# Altium schematic symbol library KasengLIb.SchLib: 43 symbols
Pins are listed as number, name and electrical type; pins without a type are passive.

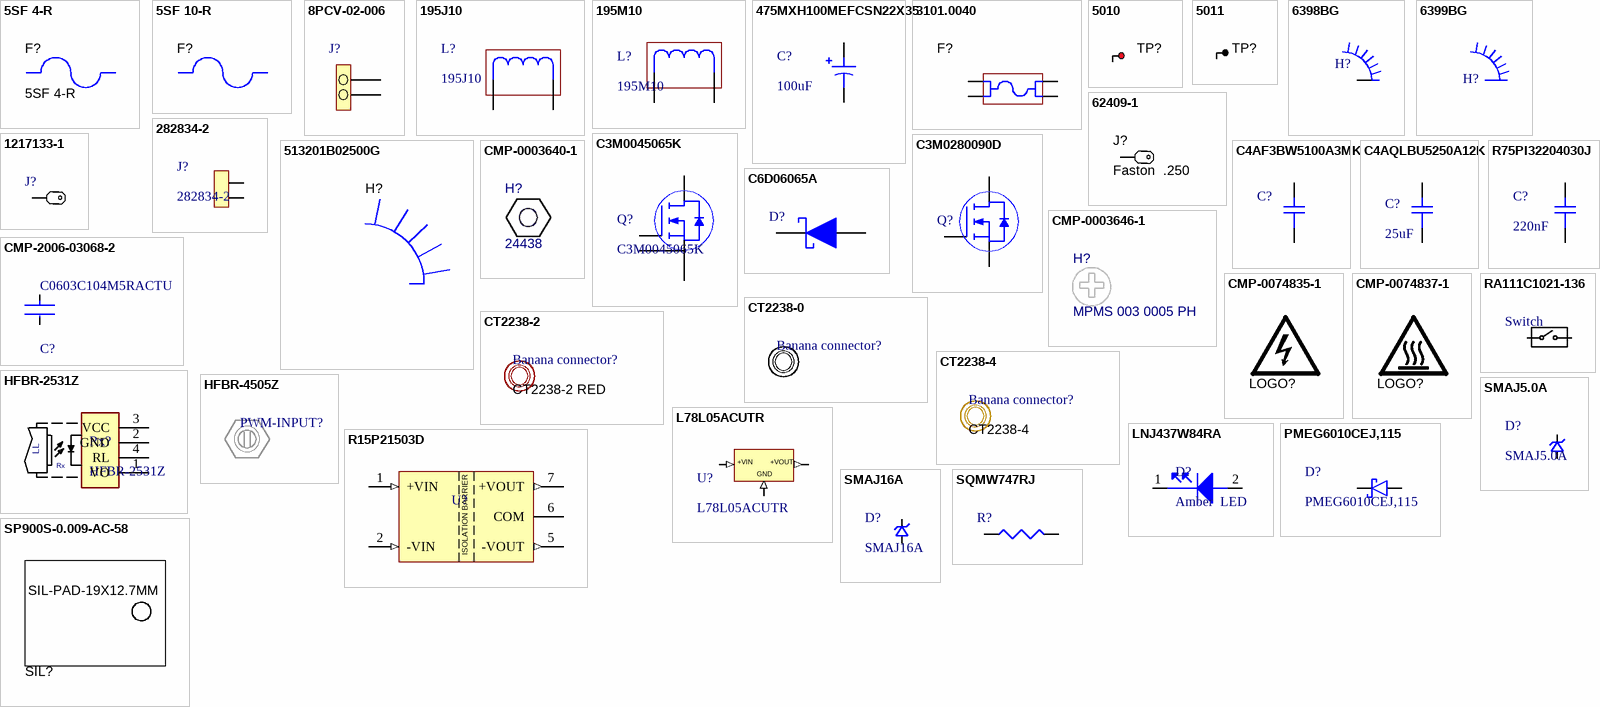
[diagram p0: symbols 5SF 4-R to SQMW747RJ]

## 5SF 4-R
designator F?  (mechanical)
Fuse, 4 A, 250 VAC, N/A; Manufacturer: Bel Fuse; SymbolCreator: a0412235; VAC_V: 250; Interrupt_AC: 40; Irating_A: 4; Rtyp_Ohm: 0.017; MeltingTyp: 26; SymbolVersion: 2013-06-05; PartNumber: 5SF 4-R; MountType: N/A; CompType: Fuse; RoHS: Y; Published: 2009-03-05; Publisher: Texas Instruments; LatestRevisionDate: 2016-05-23; ComponentLink1Description: Datasheet URL; ComponentLink1URL: http://belfuse.com/pdfs/5SF.pdf; Supplier 1: Digi-Key; Supplier Part Number 1: 507-1231-ND; Supplier 2: Mouser; Supplier Part Number 2: 530-5SF4-R

## 5SF 10-R
designator F?  (value not drawn)  (mechanical)
Fuse, 10 A, 250 VAC, N/A; Manufacturer: Bel Fuse; SymbolCreator: a0412235; VAC_V: 250; Interrupt_AC: 100; Irating_A: 10; Rtyp_Ohm: 0.006; MeltingTyp: 163; SymbolVersion: 2013-06-05; PartNumber: 5SF 10-R; MountType: N/A; CompType: Fuse; RoHS: Y; Published: 2009-03-05; Publisher: Texas Instruments; LatestRevisionDate: 2016-05-23; ComponentLink1Description: Datasheet URL; ComponentLink1URL: http://belfuse.com/pdfs/5SF.pdf; Supplier 1: Digi-Key; Supplier Part Number 1: 507-1235-ND; Supplier 2: Mouser; Supplier Part Number 2: 530-5SF10-R

## 8PCV-02-006
designator J?, comment 2P Terminal,  12-20  AWG  (value not drawn)
Barrier Terminal Blocks VERTICAL RAISED 2P; Manufacturer: TE Connectivity; Manufacturer Part Number: 8PCV-02-006; Max Voltage Rating (AC): 600V; Current Rating: 30A; Number of Contacts: 2; Mounting Ears: No (Without); Number of Levels: 1; Wire Gauge (Max): 18AWG; Wire Gauge (Min): 10AWG; Pitch: 11.1mm; Thread Size: M4; Supplier 1: Digi-Key; Supplier Part Number 1: A98460-ND; RoHS: Yes; Category: Terminal Blocks; Stock 1: 4811; Pricing 1: 1=1,84000, 10=1,29200, 25=1,20480, 50=1,09360, 100=1,08880, 250=0,91940, 500=0,87102, 1000=0,77424, 5000=0,62907 (USD); Mount: Through Hole; Contact Material: Copper Alloy; Contact Plating: Tin; Color: Black; Housing Material: Thermoplastic; Terminal Material: Copper Alloy; Insulation Material: Thermoplastic; Material: Thermoplastic; Min Operating Temperature: -40°C; Max Operating Temperature: 248°C; Number of Rows: 1; Voltage Rating: 600V; Package Quantity: 270; Termination: Screw; Number of Circuits: 2; Orientation: Straight; Number of Wire Entries: 2; Number of Positions: 2; Max Current Rating: 30A; Mounting Insert: No (Without); Voltage: 600V; Series: #8, Buchanan; Length: 24.07mm; Width: 0.8inch; Height: 0.77inch; Depth: 0.77inch; Wire/Cable Gauge: 10AWG; Flammability Rating: UL94 V-0; ELV: Compliant; RoHS Compliant: Yes; ComponentLink1URL: https://datasheet.ciiva.com/30214/8pcv02006-30214903.pdf?src-supplier=Onlinecomponents.com; ComponentLink1Description: https://datasheet.ciiva.com/30214/8pcv02006-30214903.pdf?src-supplier=Onlinecomponents.com; ComponentLink2URL: https://datasheet.ciiva.com/11746/0900766b80fa362c-11746107.pdf?src-supplier=RSComponents; ComponentLink2Description: https://datasheet.ciiva.com/11746/0900766b80fa362c-11746107.pdf?src-supplier=RSComponents; ComponentLink3URL: https://datasheet.ciiva.com/5181/eng-cd-6-1437657-3-k4-5181165.pdf?src-supplier=Mouser; ComponentLink3Description: https://datasheet.ciiva.com/5181/eng-cd-6-1437657-3-k4-5181165.pdf?src-supplier=Mouser
footprint TE_8PCV-02-006
pins: 1, 2

## 195J10
designator L?  (mechanical)
Fixed Inductors CHOKE; Manufacturer: Hammond Manufacturing; Shielding: Unshielded; Tolerance: 15%; Current Rating: 10A; Inductance: 10mH; DC Resistance (DCR): 70mR; Supplier 1: Digi-Key; Supplier Part Number 1: HM2135-ND; Manufacturer Part Number: 195J10; RoHS: Yes; Category: Fixed Inductors; Stock 1: 6; Pricing 1: 1=68,56000, 10=65,13000 (USD); Mount: Chassis Mount; Case/Package: Nonstandard; Weight: 6.5lb; Package Quantity: 1; Packaging: Bulk; Max DC Current: 10A; Termination: Screw; Series: 195; Length: 3.75inch; Width: 4.35inch; Height: 3.13inch; Height - Seated (Max): 3.13inch; Lead Free: Lead Free; RoHS Compliant: Yes; ComponentLink1URL: https://www.alliedelec.com/m/d/8463d4499fe931fd0b51c89e75ad4eff.pdf?src-supplier=Allied+Electronics; ComponentLink1Description: https://www.alliedelec.com/m/d/8463d4499fe931fd0b51c89e75ad4eff.pdf?src-supplier=Allied+Electronics; ComponentLink2URL: http://www.mouser.com/ds/2/177/5c0034-44711.pdf?src-supplier=Mouser; ComponentLink2Description: http://www.mouser.com/ds/2/177/5c0034-44711.pdf?src-supplier=Mouser; ComponentLink3URL: https://www.hammfg.com/electronics/transformers/choke/195-196.pdf?src-supplier=Digi-Key; ComponentLink3Description: https://www.hammfg.com/electronics/transformers/choke/195-196.pdf?src-supplier=Digi-Key

## 195M10
designator L?
Fixed Inductors CHOKE; Manufacturer: Hammond Manufacturing; Current Rating: 10A; Tolerance: 15%; Shielding: Unshielded; Inductance: 20mH; DC Resistance (DCR): 13mR; Supplier 1: Digi-Key; Supplier Part Number 1: HM2136-ND; Manufacturer Part Number: 195M10; RoHS: Yes; Category: Fixed Inductors; Stock 1: 20; Pricing 1: 1=82,90000 (USD); Mount: Chassis Mount; Case/Package: 120; Weight: 10.2lb; Package Quantity: 1; Packaging: Bulk; Max DC Current: 10A; Termination: Screw; Series: 195; Length: 4.5inch; Width: 4.75inch; Height: 3.75inch; RoHS Compliant: Yes; ComponentLink1URL: http://www.mouser.com/ds/2/177/195-196-980958.pdf?src-supplier=Mouser; ComponentLink1Description: http://www.mouser.com/ds/2/177/195-196-980958.pdf?src-supplier=Mouser; ComponentLink2URL: https://www.alliedelec.com/m/d/8463d4499fe931fd0b51c89e75ad4eff.pdf?src-supplier=Allied+Electronics; ComponentLink2Description: https://www.alliedelec.com/m/d/8463d4499fe931fd0b51c89e75ad4eff.pdf?src-supplier=Allied+Electronics; ComponentLink3URL: https://www.hammfg.com/electronics/transformers/choke/195-196.pdf?src-supplier=Digi-Key; ComponentLink3Description: https://www.hammfg.com/electronics/transformers/choke/195-196.pdf?src-supplier=Digi-Key

## 475MXH100MEFCSN22X35
designator C?, comment 100uF
Cap Aluminum Lytic 100uF 475V 20% (22 X 35mm) Snap-In 10mm 880mA 2000h 105C; Manufacturer: Rubycon; Manufacturer Part Number: 475MXH100MEFCSN22X35; Polarity: Polar; Life (Hours): 2000Hour; Supplier 1: Digi-Key; Supplier Part Number 1: 1189-3424-ND; RoHS: Yes; Category: Aluminum Electrolytic Capacitors; Stock 1: 187; Pricing 1: 1=3,65000, 10=3,53900, 50=3,13740, 100=2,84560, 500=2,11598, 1000=1,97004, 2500=1,89708, 5000=1,86059 (USD); Mount: Through Hole; Case/Package: Radial; Min Operating Temperature: -25°C; Max Operating Temperature: 105°C; Packaging: Bulk; Capacitance: 100uF; Voltage Rating: 475V; Ripple Current: 880mA; Tolerance: 20%; Lead Pitch: 0.394inch; Height - Seated (Max): 1.457inch; RoHS Compliant: Yes; ComponentLink1URL: http://www.rubycon.co.jp/en/catalog/e_pdfs/aluminum/e_MXH.pdf?src-supplier=Digi-Key; ComponentLink1Description: http://www.rubycon.co.jp/en/catalog/e_pdfs/aluminum/e_MXH.pdf?src-supplier=Digi-Key
footprint CAP_MXC_22x35_RUB
pins: 1, 2

## 3101.0040
designator F?  (value not drawn)
Fuse Holder, 400 V, 16 A, TH; Manufacturer: Schurter; SymbolCreator: a0799628; SymbolVersion: 2014-05-01; CompType: Fuse Holder; PartNumber: 3101.0040; RoHS: Y; PackageReference: Fuse Holder for 5x20mm; MountType: TH; ComponentLink1Description: Datasheet Link; ComponentLink1URL: http://www.schurterinc.com/var/schurter/storage/ilcatalogue/files/document/datasheet/en/pdf/typ_FPG4.pdf; Publisher: Texas Instruments; LatestRevisionDate: 2016-05-10; Supplier 1: Digi-Key; Supplier Part Number 1: 486-1159-ND
footprint SCHURTER_3101_0040 (Fuse Holder, Body 12.5x12.5mm, TH)
pins: 1, 2, 3, 4

## 5010
designator TP?  (value not drawn)
Test Point, Multipurpose, Red, TH; Manufacturer: Keystone; CompType: Test Point Loop; ContactFinish: Silver; SymbolVersion: 2008-04-04; PartNumber: 5010; PackageReference: Red Multipurpose Testpoint; RoHS: Y; MountType: TH; ComponentLink1Description: Datasheet URL; ComponentLink1URL: http://www.keyelco.com/userAssets/file/M60-2p60.pdf; Color: Red; Publisher: Texas Instruments; LatestRevisionDate: 2016-02-11; Supplier 1: Digi-Key; Supplier Part Number 1: 36-5010-ND; Supplier 2: Mouser; Supplier Part Number 2: 534-5010
footprint Keystone5010
pins: 1

## 5011
designator TP?  (value not drawn)
Test Point, Multipurpose, Black, TH; Manufacturer: Keystone; CompType: Test Point Loop; ContactFinish: Silver; SymbolVersion: 2008-04-04; PartNumber: 5011; PackageReference: Black Multipurpose Testpoint; RoHS: Y; MountType: TH; ComponentLink1Description: Datasheet URL; ComponentLink1URL: http://www.keyelco.com/userAssets/file/M60-2p60.pdf; Color: Black; Publisher: Texas Instruments; LatestRevisionDate: 2016-02-11; Supplier 1: Digi-Key; Supplier Part Number 1: 36-5011-ND; Supplier 2: Mouser; Supplier Part Number 2: 534-5011
footprint Keystone5011
pins: 1

## 6398BG
designator H?  (value not drawn)
AAVID THERMALLOY   6398BG   Heat Sink, Square, PCB, With Radial Fins, TO-220, 4.4 C/W, 38.1 mm, 41.91 mm, 25.4 mm; Shape: Fins,Rectangular; Finish: Anodized; Thermal Resistance @ Forced Air Flow (100 LFM): 2°C/W; Natural Thermal Resistance: 4.4°C/W; Supplier 1: Digi-Key; Supplier Part Number 1: 6398BG-ND; Manufacturer: Aavid Thermalloy; Manufacturer Part Number: 6398BG; RoHS: Yes; Category: Heat Sinks; Stock 1: 6116; Pricing 1: 1=2,05000, 10=1,99200, 25=1,93800, 50=1,83020, 100=1,72260, 250=1,61496, 500=1,56112, 1000=1,39962, 5000=1,37270 (USD); Mount: Bolt,PC Pin,Screw; Case/Package: Radial; Number of Pins: 220; Color: Black; Package Cooled: TO-220; Material: Aluminium,Anodized; Type: Passive; Package Quantity: 500; Length: 41.91mm; Width: 1.65inch; Height: 38.1mm; Height Off Base: 1inch; Depth: 25.4mm; Radiation Hardening: No; REACH SVHC: No SVHC; Lead Free: Lead Free; RoHS Compliant: Yes; ComponentLink1URL: https://datasheet.ciiva.com/1421/5562-1421857.pdf?src-supplier=Newark; ComponentLink1Description: https://datasheet.ciiva.com/1421/5562-1421857.pdf?src-supplier=Newark; ComponentLink2URL: https://datasheet.ciiva.com/15182/getdatasheetpartid-123227-15182577.pdf?src-supplier=Verical; ComponentLink2Description: https://datasheet.ciiva.com/15182/getdatasheetpartid-123227-15182577.pdf?src-supplier=Verical; ComponentLink3URL: https://datasheet.ciiva.com/16362/6398bg-16362515.pdf?src-supplier=Future+Electronics; ComponentLink3Description: https://datasheet.ciiva.com/16362/6398bg-16362515.pdf?src-supplier=Future+Electronics; ComponentLink4URL: https://datasheet.ciiva.com/1005/aavid-board-level-heatsinks-catalog-1005059.pdf?src-supplier=Digi-Key; ComponentLink4Description: https://datasheet.ciiva.com/1005/aavid-board-level-heatsinks-catalog-1005059.pdf?src-supplier=Digi-Key; ComponentLink5URL: https://datasheet.ciiva.com/1346/5562-1346792.pdf?src-supplier=Element14; ComponentLink5Description: https://datasheet.ciiva.com/1346/5562-1346792.pdf?src-supplier=Element14
footprint HSINK_6398BG
pins: 1

## 6399BG
designator H?, comment Disipador de 3.3.C/W  (value not drawn)
AAVID THERMALLOY         6399BG            Heat Sink, TO-220/218, TO-220, 3.3 C/W, 50 mm, 41.91 mm, 25.4 mm; Finish: Anodized; Natural Thermal Resistance: 3.3°C/W; Supplier 1: Digi-Key; Supplier Part Number 1: HS528-ND; Manufacturer: Aavid Thermalloy; Manufacturer Part Number: 6399BG; RoHS: Yes; Category: Heat Sinks; Stock 1: 1442; Pricing 1: 1=6,20000, 10=6,02800, 25=5,69320, 50=5,35840, 100=5,02350, 250=4,68860, 500=4,35370, 1000=4,26998, 5000=4,18625 (USD); Case/Package: TO-220; Color: Black; Material: Anodized; Type: Passive; Package Quantity: 250; Series: *; Length: 41.91mm; Width: 41.91mm; Height: 50.8mm; Depth: 25.4mm; Radiation Hardening: No; REACH SVHC: No SVHC; Lead Free: Lead Free; RoHS Compliant: Yes; ComponentLink1URL: https://datasheet.ciiva.com/26826/getdatasheetpartid-556672-26826808.pdf?src-supplier=Verical; ComponentLink1Description: https://datasheet.ciiva.com/26826/getdatasheetpartid-556672-26826808.pdf?src-supplier=Verical; ComponentLink2URL: https://datasheet.ciiva.com/16401/aavid20thermalloy206399bg-16401195.pdf?src-supplier=Future+Electronics; ComponentLink2Description: https://datasheet.ciiva.com/16401/aavid20thermalloy206399bg-16401195.pdf?src-supplier=Future+Electronics
footprint HSINK_6399BG

## 62409-1
designator J?, comment Faston  .250
Quick Disconnect Terminal M 15.8mm 7.5mm Tin Over Copper Automotive Bag; Manufacturer: AMP - TE CONNECTIVITY; Manufacturer Part Number: 62409-1; RoHS: No; Stock 1: 8729; Pricing 1: 1=0,19000, 10=0,17800, 25=0,15200, 50=0,13320, 100=0,12360, 250=0,10936, 750=0,09035, 1500=0,08083, 8000=0,06895 (USD); ComponentLink1URL: http://www.farnell.com/datasheets/1650963.pdf?src-supplier=Farnell; ComponentLink1Description: http://www.farnell.com/datasheets/1650963.pdf?src-supplier=Farnell; ComponentLink2URL: http://www.farnell.com/datasheets/1650963.pdf?src-supplier=Element14; ComponentLink2Description: http://www.farnell.com/datasheets/1650963.pdf?src-supplier=Element14; ComponentLink3URL: http://www.farnell.com/datasheets/1650963.pdf?src-supplier=Newark; ComponentLink3Description: http://www.farnell.com/datasheets/1650963.pdf?src-supplier=Newark; ComponentLink4URL: https://www.te.com/commerce/DocumentDelivery/DDEController?Action=srchrtrv&DocNm=62409&DocType=Customer+Drawing&DocLang=English&src-supplier=Digi-Key; ComponentLink4Description: https://www.te.com/commerce/DocumentDelivery/DDEController?Action=srchrtrv&DocNm=62409&DocType=Customer+Drawing&DocLang=English&src-supplier=Digi-Key; Supplier 1: Newark; Supplier Part Number 1: 26AC8417
footprint TE_62409-1
pins: 1 P1

## 282834-2
designator J?
TE CONNECTIVITY / BUCHANAN - 282834-2 - TERMINAL BLOCK, WIRE TO BRD, 2POS, 16AWG; Plating: Brass,Steel; Number of Contacts: 2; Voltage Rating: 150V; Number of Levels: 1; Current: 10A; Connector Type: Receptacle; Interlock: No (Without); Screwless Terminal Block: Yes (With); Gender: Male; Pitch: 2.54mm; Wire Gauge (Max): 30AWG; Thread Size: M1.6; Tail Length: 3.4mm; Approvals: UL; Supplier 1: Digi-Key; Supplier Part Number 1: A98333-ND; Manufacturer: TE Connectivity; Manufacturer Part Number: 282834-2; RoHS: Yes; Category: Terminal Blocks; Stock 1: 21575; Pricing 1: 1=1,27000, 10=0,89500, 25=0,83440, 50=0,75740, 100=0,75410, 250=0,63676, 500=0,60324, 1000=0,53622, 5000=0,50270 (USD); Mount: Through Hole; Housing Color: Green; Contact Plating: Tin; Contact Material: Brass; Color: Green; Housing Material: Polyamide; Material: Nylon; Min Operating Temperature: -40°C; Max Operating Temperature: 105°C; Number of Rows: 1; Termination: Solder; Orientation: Straight; Package Quantity: 300; Packaging: Bulk; Number of Positions: 2; Number of Positions Per Level: 2; Voltage: 150V; Max Supply Voltage (AC): 150V; Number of Circuits: 2; Screw Flange: No (Without); Side Stackable: Yes (With); Series: Buchanan; Max Voltage Rating (AC): 150V; Current Rating: 10A; Closed End: No (Without); Max Current Rating: 10A; Number of Poles: 2; Length: 5.54mm; Width: 6.5mm; Wire Gauge (Min): 30AWG; Depth: 6.5mm; Wire/Cable Gauge: 30AWG; Radiation Hardening: No; ELV: Compliant; Flammability Rating: UL94 V-0; RoHS Compliant: Yes; Lead Free: Lead Free; REACH SVHC: Unknown; ComponentLink1URL: https://datasheet.ciiva.com/11758/0900766b80e7dc96-11758675.pdf?src-supplier=RSComponents; ComponentLink1Description: https://datasheet.ciiva.com/11758/0900766b80e7dc96-11758675.pdf?src-supplier=RSComponents; ComponentLink2URL: https://datasheet.ciiva.com/16386/282834-2-16386363.pdf?src-supplier=Future+Electronics; ComponentLink2Description: https://datasheet.ciiva.com/16386/282834-2-16386363.pdf?src-supplier=Future+Electronics; ComponentLink3URL: https://datasheet.ciiva.com/14609/70086732-14609670.pdf?src-supplier=Allied+Electronics; ComponentLink3Description: https://datasheet.ciiva.com/14609/70086732-14609670.pdf?src-supplier=Allied+Electronics; ComponentLink4URL: https://datasheet.ciiva.com/15169/getdatasheetpartid-155864-15169558.pdf?src-supplier=Verical; ComponentLink4Description: https://datasheet.ciiva.com/15169/getdatasheetpartid-155864-15169558.pdf?src-supplier=Verical; ComponentLink5URL: https://datasheet.ciiva.com/16676/eng-cs-1308389-eurostyle-terminal-blocks-0607-16676126.pdf?src-supplier=Avnet+Europe; ComponentLink5Description: https://datasheet.ciiva.com/16676/eng-cs-1308389-eurostyle-terminal-blocks-0607-16676126.pdf?src-supplier=Avnet+Europe; ComponentLink6URL: https://datasheet.ciiva.com/30166/eng-cs-1308389-eurostyle-terminal-blocks-0607-30166974.pdf?src-supplier=Onlinecomponents.com; ComponentLink6Description: https://datasheet.ciiva.com/30166/eng-cs-1308389-eurostyle-terminal-blocks-0607-30166974.pdf?src-supplier=Onlinecomponents.com; ComponentLink7URL: https://datasheet.ciiva.com/3141/eng-cs-1308389-eurostyle-terminal-blocks-0607-3141115.pdf?src-supplier=Avnet; ComponentLink7Description: https://datasheet.ciiva.com/3141/eng-cs-1308389-eurostyle-terminal-blocks-0607-3141115.pdf?src-supplier=Avnet; ComponentLink8URL: https://datasheet.ciiva.com/823/eng-cd-282834-c1-823453.pdf?src-supplier=Digi-Key; ComponentLink8Description: https://datasheet.ciiva.com/823/eng-cd-282834-c1-823453.pdf?src-supplier=Digi-Key
footprint TE 282834-2
pins: 1, 2

## 513201B02500G
designator H?  (value not drawn)
HEATSINK TO-218/TO-247 W/PINS 2"; Manufacturer: Aavid; SymbolCreator: a0412235; SymbolVersion: 2013-07-05; CompType: Heat Sink; PartNumber: 513201B02500G; RoHS: Y; PackageReference: 12.70x50.80x34.92 mm; MountType: N/A; ComponentLink1Description: Datasheet Link; ComponentLink1URL: http://www.aavid.com/sites/default/files/literature/Aavid-Board-Level-Heatsinks-Catalog.pdf#page=58; Publisher: Texas Instruments; LatestRevisionDate: 2014-06-05; Supplier 1: Digi-Key; Supplier Part Number 1: HS347-ND; Supplier 2: Mouser; Supplier Part Number 2: 532-513201B25G
footprint HSINK_513201B02500

## 1217133-1
designator J?, comment Faston .133  (value not drawn)
CONN QC TAB 0.187 SOLDER; Manufacturer: TE Connectivity; Manufacturer Part Number: 1217133-1; Plating: Tin; Body Material: Brass; Insulation: Non-Insulated; Insulated Wire Support: Yes; Gender: Male; Outside Diameter: 1.32mm; Mating Tab Width: 4.75mm; Hole Diameter: 0.052inch; PCB Thickness: 0.062inch; Tab Width: 0.187inch; Tab Thickness: 0.032inch; Board Thickness: 1.57mm; Supplier 1: Digi-Key; Supplier Part Number 1: A100449CT-ND; RoHS: Yes; Category: Terminals; Stock 1: 9496; Pricing 1: 1=0,14000, 10=0,13300, 25=0,09920, 50=0,08500, 100=0,08210, 250=0,07076, 500=0,06794, 1000=0,05945, 2500=0,05379 (USD); Material: Brass; Body Plating: Tin; Contact Plating: Tin; Contact Material: Brass; Termination: Tab; Packaging: Tape and Reel; Package Quantity: 10000; Length: 12.45mm; Depth: 7.92mm; Radiation Hardening: No; Lead Free: Lead Free; ELV: Compliant; ComponentLink1URL: https://datasheet.ciiva.com/3144/eng-cs-82004-faston-pcb-tabs-receptacles-1012-3144672.pdf?src-supplier=Avnet; ComponentLink1Description: https://datasheet.ciiva.com/3144/eng-cs-82004-faston-pcb-tabs-receptacles-1012-3144672.pdf?src-supplier=Avnet; ComponentLink2URL: https://datasheet.ciiva.com/16301/eng-cs-82004-faston-pcb-tabs-receptacles-0311-16301555.pdf?src-supplier=Future+Electronics; ComponentLink2Description: https://datasheet.ciiva.com/16301/eng-cs-82004-faston-pcb-tabs-receptacles-0311-16301555.pdf?src-supplier=Future+Electronics; ComponentLink3URL: https://datasheet.ciiva.com/839/eng-cd-1217133-g-basefilename-839190.pdf?src-supplier=Digi-Key; ComponentLink3Description: https://datasheet.ciiva.com/839/eng-cd-1217133-g-basefilename-839190.pdf?src-supplier=Digi-Key; ComponentLink4URL: https://datasheet.ciiva.com/30183/eng-cat-82004-0706-042-052-30183301.pdf?src-supplier=Onlinecomponents.com; ComponentLink4Description: https://datasheet.ciiva.com/30183/eng-cat-82004-0706-042-052-30183301.pdf?src-supplier=Onlinecomponents.com; ComponentLink5URL: https://datasheet.ciiva.com/16647/eng-cs-82004-faston-pcb-tabs-receptacles-1012-16647017.pdf?src-supplier=Avnet+Europe; ComponentLink5Description: https://datasheet.ciiva.com/16647/eng-cs-82004-faston-pcb-tabs-receptacles-1012-16647017.pdf?src-supplier=Avnet+Europe; ComponentLink6URL: https://datasheet.ciiva.com/839/eng-cd-1217133-g-basefilename-839191.pdf?src-supplier=Digi-Key; ComponentLink6Description: https://datasheet.ciiva.com/839/eng-cd-1217133-g-basefilename-839191.pdf?src-supplier=Digi-Key
pins: 1 P1

## C3M0045065K
designator Q?
GEN 3 650V 45 M SIC MOSFET; Manufacturer: Cree Wolfspeed; Manufacturer Part Number: C3M0045065K; RoHS: No; Stock 1: 444; Pricing 1: 1=10,55000 (USD)
footprint TO-247-4L_C3M0075120K_WFS
pins: 1 D, 2 Power Source, 3 S, 4 G

## C3M0280090D
designator Q?, comment Sic MOSFET  (value not drawn)
MOSFET N-CH 900V 11.5A; Manufacturer: Cree; Manufacturer Part Number: C3M0280090D; Threshold Voltage: 2.1V; Max Power Dissipation: 54W; Supplier 1: Digi-Key; Supplier Part Number 1: C3M0280090D-ND; RoHS: Yes; Category: Transistors; Stock 1: 150; Pricing 1: 1=3,25000 (USD); Case/Package: TO-247; Number of Pins: 3; Max Operating Temperature: 150°C; Continuous Drain Current (ID): 11.5A; Drain to Source Voltage (Vdss): 900V; REACH SVHC: No SVHC; ComponentLink1URL: https://www.wolfspeed.com/downloads/dl/file/id/825/product/195/c3m0280090d.pdf?src-supplier=Digi-Key; ComponentLink1Description: https://www.wolfspeed.com/downloads/dl/file/id/825/product/195/c3m0280090d.pdf?src-supplier=Digi-Key
footprint C3M0280090D (To-247-3 C3M0280090D)
pins: 1 G, 2 D, 3 S

## C4AF3BW5100A3MK
designator C?  (value not drawn)
Cap Film 10uF 800V PP 10% (57.5 X 30 X 45mm) Radial 52.5mm 105°C Bulk; Manufacturer: KEMET; Supplier 1: Digi-Key; Supplier Part Number 1: 399-17837-ND; Manufacturer Part Number: C4AF3BW5100A3MK; RoHS: Yes; Category: Film Capacitors; Stock 1: 162; Pricing 1: 1=9,21000, 10=8,18900, 50=7,16540, 100=6,55120, 500=5,73230 (USD); RoHS Compliant: Yes
footprint C4AF Capacitors
pins: 1, 2

## C4AQLBU5250A12K
designator C?, comment 25uF
KEMET   C4AQLBU5250A12K.   CAP FILM 25UF 10% 500VDC RADIAL; Supplier 1: Digi-Key; Supplier Part Number 1: 399-16989-ND; Manufacturer: KEMET; Manufacturer Part Number: C4AQLBU5250A12K; RoHS: Yes; Category: Film Capacitors; Stock 1: 99; Pricing 1: 1=7,00000, 10=6,21800, 50=5,44060, 100=4,97440, 500=4,35256 (USD); RoHS Compliant: Yes; Value: 25uF
footprint C4AQLBU5250A12K (Film Capacitor KEMET)
pins: 1, 2

## C6D06065A
designator D?, comment Schottky Diode  (value not drawn)
Sic Schottky Diode, VRRM = 650V. IF= 6A; Manufacturer: Cree Wolfspeed; Manufacturer Part Number: C6D06065A; Cagetory: Schottly Diode; Supplier 1: Digi-Key; Supplier Part Number 1: 1697-C6D06065A-ND; RoHS: No; Stock 1: 376; Pricing 1: 1=1,80000 (USD)
footprint C6D06065A (To-220-2,C6D06065A,)
pins: 1, 2

## CMP-2006-03068-2
designator C?, comment C0603C104M5RACTU
CAP CER 0.1UF 50V 20% X7R 0603; Manufacturer: KEMET; Material: Ceramic; Tolerance: 0.2; Value: 0.10 μF; Temperature Coefficient: 30ppm/°C; Automotive Grade: Grade 1; Temperature Range High: +125°C; Voltage Rating: 50 V; Device Class L3: Ceramic Capacitors; Manufacturer Part Number: C0603C104M5RACTU; Height: 0.87mm; Category: Cap; RoHS: TRUE; Digikey Description: CAP CER 0.1UF 50V 20% X7R 0603; ComponentLink2URL: https://api.kemet.com/component-edge/download/datasheet/C0603C100J5GACAUTO.pdf; Lead Free: Yes; Temperature Range Low: -55°C; Device Class L1: Passive Components; ComponentLink2Description: Datasheet; Temperature Characteristic: X7R; Automotive: Yes; Temperature: -55°C to +125°C; Octopart: https://octopart.com/c0603c104m5ractu-kemet-11855687; Device Class L2: Capacitors; Package: C0603C-CF; Mouser Description: Multilayer Ceramic Capacitors MLCC - SMD/SMT 50volts 0.1uF X7R 20%; Capacitance: 0.10 μF
footprint FP-C0603C-CF-IPC_C
pins: 1, 2

## CMP-0003640-1
designator H?, comment 24438
Standoff, Hex,25mm Length, M3, Aluminum; Manufacturer: Keystone; CompType: Hardware; ComponentLink1URL: http://www.keyelco.com/userAssets/file/M60-2p72.pdf; Key: 24438; Publisher: Texas Instruments; Supplier Part Number 2: 534-24438; Supplier 1: Digi-Key; PackageReference: Standoff M3; LatestRevisionDate: 2017-03-09; RoHS: Y; Supplier Part Number 1: 36-24438-ND; MountType: TH; Supplier 2: Mouser; PartNumber: 24438; ComponentLink1Description: Datasheet Link
footprint Keystone24438 (Standoff, Aluminium, M3x0.5mm, L 25 mm)
footprint Keystone24438 (Standoff, Aluminium, M3x0.5mm, L 25 mm)

## CMP-0003646-1
designator H?, comment MPMS 003 0005 PH
MACHINE SCREW PAN PHILLIPS M3 5mm; Manufacturer: B&F Fastener Supply; CompType: Hardware; ComponentLink1URL: http://www.fasnetdirect.com/refguide/MetD7985a.pdf; Key: MPMS 003 0005 PH; Publisher: Texas Instruments; PackageReference: Screw M3 Phillips head; LatestRevisionDate: 2017-03-09; ClassName: Screw; RoHS: Y; MountType: N/A; PartNumber: MPMS 003 0005 PH; ComponentLink1Description: Datasheet Link; Supplier 1: Digi-Key; Supplier Part Number 1: H742-ND
footprint BuildingFastener_MPMS_003_0005_PH (MACHINE SCREW PAN PHILLIPS M3)

## CMP-0074835-1
designator LOGO?, comment DANGER HIGH VOLTAGE  (value not drawn)  (no BOM)
IEC 61010-1 High Voltage Warning; SymbolCreator: a0412235; Lib Reference: IEC_HighVoltage; SymbolVersion: 2011-08-22; Published: 2009-03-03; Publisher: Texas Instruments; LatestRevisionDate: 2017-07-06; PartNumber: DANGER HIGH VOLTAGE; Library Reference: IEC_HighVoltage
footprint IEC_HighVoltage_Large
footprint IEC_HighVoltage_Small
footprint IEC_HighVoltage_Medium

## CMP-0074837-1
designator LOGO?, comment CAUTION HOT SURFACE  (value not drawn)  (no BOM)
IEC 61010-1 Hot Surface Warning; SymbolCreator: a0412235; Lib Reference: IEC_HotSurface; SymbolVersion: 2011-08-22; Published: 2009-03-03; Publisher: Texas Instruments; LatestRevisionDate: 2017-07-06; PartNumber: CAUTION HOT SURFACE; Library Reference: IEC_HotSurface
footprint IEC_HotSurface_Large
footprint IEC_HotSurface_Small
footprint IEC_HotSurface_Medium

## CT2238-0
designator Banana connector?  (value not drawn)  (mechanical)
Cable Assembly 4MM Safety Jack, Panel W/.25 Fast on Terminal Black; Manufacturer: Cal Test Electronics; Supplier 1: Digi-Key; Supplier Part Number 1: BKCT2238-0-ND; Manufacturer Part Number: CT2238-0; RoHS: No; Stock 1: 1448; Pricing 1: 1=2,00000 (USD)

## CT2238-2
designator Banana connector?, comment CT2238-2 RED  (mechanical)
Cable Assembly 4MM Safety Jack, Panel W/.25 Fast on Terminal Red; Manufacturer: Cal Test Electronics; Manufacturer Part Number: CT2238-0; Supplier 1: Digi-Key; Supplier Part Number 1: BKCT2238-0-ND; RoHS: No; Stock 1: 1448; Pricing 1: 1=2,00000 (USD)

## CT2238-4
designator Banana connector?  (mechanical)
Cable Assembly 4MM Safety Jack, Panel W/.25 Fast on Terminal Yellow; Manufacturer: Cal Test Electronics; Manufacturer Part Number: CT2238-0; Supplier 1: Digi-Key; Supplier Part Number 1: BKCT2238-0-ND; RoHS: No; Stock 1: 1448; Pricing 1: 1=2,00000 (USD)

## HFBR-2531Z
designator Rx?
RX Optical Fiber 5MBd 6-Pin; Manufacturer: Broadcom Avago; Wavelength: 660nm; Operating Supply Current: 10mA; Max Supply Voltage: 7V; Min Supply Voltage: -500mV; Output Current: 25mA; Data Rate: 115Kbps; Operating Supply Voltage: 5V; Max Power Dissipation: 40mW; Rise Time: 80ns; Fall Time: 40ns; Supplier 1: Digi-Key; Supplier Part Number 1: 516-2067-ND; Manufacturer Part Number: HFBR-2531Z; RoHS: Yes; Category: Fiber Optics; Stock 1: 6696; Pricing 1: 1=12,98000, 10=9,79400, 100=8,22730, 500=7,55568, 1000=7,39200 (USD); Mount: Through Hole; Number of Pins: 6; Weight: 0.021164oz; Min Operating Temperature: -40°C; Max Operating Temperature: 85°C; Package Quantity: 200; Max Output Current: 25mA; Packaging: Rail/Tube; Series: HFBR-2; Length: 18.3mm; Width: 12.2mm; Height: 18.8mm; Radiation Hardening: No; REACH SVHC: No SVHC; Lead Free: Lead Free; RoHS Compliant: Yes
footprint HFBR-15X1V
pins: 1 VO, 2 GND (power), 3 VCC, 4 RL
text: LL; Rx

## HFBR-4505Z
designator PWM-INPUT?  (value not drawn)  (mechanical)
Conn POF Adapter Simplex F/F ST Panel Mount; Manufacturer: Broadcom Avago; Body Material: Plastic; Simplex/Duplex: Duplex; Gender: Male; Mode: Singlemode; Supplier 1: Digi-Key; Supplier Part Number 1: 516-1748-ND; Manufacturer Part Number: HFBR-4505Z; RoHS: Yes; Category: Fiber Optics; Stock 1: 6533; Pricing 1: 1=1,88000, 10=1,19200, 100=0,88240, 500=0,81090, 1000=0,66780, 2000=0,63441, 5000=0,63000 (USD); Mount: Panel,Bulkhead; Color: Grey; Housing Color: Grey; Material: Plastic; Housing Material: Plastic; Min Operating Temperature: -40°C; Max Operating Temperature: 85°C; Package Quantity: 500; Packaging: Bulk; Orientation: Straight; Series: -; Port Type: SIMPLEX; Length: 30mm; Depth: 11mm; REACH SVHC: No SVHC; Lead Free: Lead Free; RoHS Compliant: Yes

## L78L05ACUTR
designator U?
Voltage regulator; linear, fixed; 5V; 0.1A; SOT89; SMD; 0÷125°C; Manufacturer: STMicroelectronics; Number of Outputs: 1; Max Input Voltage: 30V; Max Output Current: 100mA; Polarity: Positive; Quiescent Current: 6mA; Accuracy: 4%; Dropout Voltage: 1.7V; Min Input Voltage: 7V; Power Supply Rejection Ratio (PSRR): 49dB; Supplier 1: Digi-Key; Supplier Part Number 1: 497-1183-1-ND; Manufacturer Part Number: L78L05ACUTR; RoHS: Yes; Category: Voltage Regulators - Linear; Stock 1: 40018; Pricing 1: 1=0,53000, 10=0,43300, 25=0,39600, 100=0,26710, 250=0,22108, 500=0,20266, 1000=0,17380 (USD); Mount: Surface Mount; Case/Package: SOT-89; Number of Pins: 3; Weight: 0.004603oz; Contact Plating: Tin,Matte; Min Operating Temperature: 0°C; Max Operating Temperature: 125°C; Output Voltage: 5V; Output Type: Fixed; Package Quantity: 1; Packaging: Tape and Reel; Output Current: 100mA; Nominal Output Voltage: 5V; Number of Regulators: 1; Min Output Voltage: 5V; Output Voltage Accuracy: 4%; Series: -; Length: 4.6mm; Width: 2.6mm; Height: 1.6mm; Radiation Hardening: No; REACH SVHC: No SVHC; Lead Free: Lead Free; RoHS Compliant: Yes; ComponentLink1URL: https://datasheet.ciiva.com/2041/cd00000446-2041792.pdf?src-supplier=Digi-Key; ComponentLink1Description: https://datasheet.ciiva.com/2041/cd00000446-2041792.pdf?src-supplier=Digi-Key; ComponentLink2URL: https://datasheet.ciiva.com/1511/1868798-1511940.pdf?src-supplier=Element14; ComponentLink2Description: https://datasheet.ciiva.com/1511/1868798-1511940.pdf?src-supplier=Element14; ComponentLink3URL: https://datasheet.ciiva.com/7992/1868798-7992600.pdf?src-supplier=Element14; ComponentLink3Description: https://datasheet.ciiva.com/7992/1868798-7992600.pdf?src-supplier=Element14; ComponentLink4URL: https://datasheet.ciiva.com/16393/cd00000446-16393708.pdf?src-supplier=Future+Electronics; ComponentLink4Description: https://datasheet.ciiva.com/16393/cd00000446-16393708.pdf?src-supplier=Future+Electronics; ComponentLink5URL: https://datasheet.ciiva.com/22710/1868798-22710940.pdf?src-supplier=Element14; ComponentLink5Description: https://datasheet.ciiva.com/22710/1868798-22710940.pdf?src-supplier=Element14; ComponentLink6URL: https://datasheet.ciiva.com/4882/cd00000446-355303-4882429.pdf?src-supplier=Mouser; ComponentLink6Description: https://datasheet.ciiva.com/4882/cd00000446-355303-4882429.pdf?src-supplier=Mouser; ComponentLink7URL: https://datasheet.ciiva.com/2041/cd00000446-2041790.pdf?src-supplier=Digi-Key; ComponentLink7Description: https://datasheet.ciiva.com/2041/cd00000446-2041790.pdf?src-supplier=Digi-Key; ComponentLink8URL: https://datasheet.ciiva.com/2041/cd00000446-2041791.pdf?src-supplier=Digi-Key; ComponentLink8Description: https://datasheet.ciiva.com/2041/cd00000446-2041791.pdf?src-supplier=Digi-Key
footprint VREG_L78L12ABUTR
pins: 1 OUT (out), 2 GND (in), 3 IN (in)
text: +VIN; +VOUT

## LNJ437W84RA
designator D?, comment Amber  LED
PANASONIC - LNJ437W84RA - LED, AMBER, 0.8MM X 1.1MM, 25MCD, 590NM; Manufacturer: Panasonic SSG; Color: Orange; Forward Voltage: 1.95V; Forward Current: 5mA; Lens Style: Rectangular; Number of LEDs: 1; Max Power Dissipation: 55mW; Reverse Voltage: 4V; Supplier 1: Digi-Key; Supplier Part Number 1: LNJ437W84RACT-ND; Manufacturer Part Number: LNJ437W84RA; RoHS: Yes; Category: LEDs; Stock 1: 25083; Pricing 1: 1=0,26000, 10=0,16900, 100=0,12150, 500=0,10196, 1000=0,09579 (USD); Mount: Surface Mount; Case/Package: 0603; Number of Pins: 2; Case Code (Metric): 1608; Case Code (Imperial): 0603; Min Operating Temperature: -30°C; Max Operating Temperature: 85°C; Wavelength: 590nm; Luminous Intensity: 25mcd; Package Quantity: 5000; Packaging: Cut Tape; Illumination Color: Orange; Test Current: 5mA; Dominant Wavelength: 590nm; Power Rating: 55mW; Series: LN; Reverse Voltage (DC): 4V; Length: 1.6mm; Width: 0.8mm; Height: 0.2mm; REACH SVHC: No SVHC; Lead Free: Lead Free; RoHS Compliant: Yes; ComponentLink1URL: https://datasheet.ciiva.com/4689/lnj437w84ra-aek-226228-4689972.pdf?src-supplier=Mouser; ComponentLink1Description: https://datasheet.ciiva.com/4689/lnj437w84ra-aek-226228-4689972.pdf?src-supplier=Mouser; ComponentLink2URL: https://datasheet.ciiva.com/8028/lnj437w84ra-aek-8028645.pdf?src-supplier=Element14; ComponentLink2Description: https://datasheet.ciiva.com/8028/lnj437w84ra-aek-8028645.pdf?src-supplier=Element14; ComponentLink3URL: https://datasheet.ciiva.com/11775/0900766b80f0a8c0-11775375.pdf?src-supplier=RSComponents; ComponentLink3Description: https://datasheet.ciiva.com/11775/0900766b80f0a8c0-11775375.pdf?src-supplier=RSComponents
pins: 1, 2

## PMEG6010CEJ,115
designator D?
PMEG6010CEH; PMEG6010CEJ - 1 A very low VF MEGA Schottky barrier rectifiers; Manufacturer: Nexperia; =Value: 60V; Manufacturer Part Number: PMEG6010CEJ,115; RoHS: Yes; Category: Rectifier Diodes; Stock 1: 105369; Pricing 1: 1=0,35000, 10=0,27200, 100=0,16340, 500=0,15128, 1000=0,10288 (USD); ComponentLink1URL: https://www.mouser.com/ds/2/302/PMEG6010CEH_PMEG6010CEJ-102368.pdf?src-supplier=Mouser; ComponentLink1Description: https://www.mouser.com/ds/2/302/PMEG6010CEH_PMEG6010CEJ-102368.pdf?src-supplier=Mouser; ComponentLink2URL: http://www.farnell.com/datasheets/109684.pdf?src-supplier=Farnell; ComponentLink2Description: http://www.farnell.com/datasheets/109684.pdf?src-supplier=Farnell; ComponentLink3URL: http://www.farnell.com/datasheets/109684.pdf?src-supplier=Newark; ComponentLink3Description: http://www.farnell.com/datasheets/109684.pdf?src-supplier=Newark; ComponentLink4URL: https://assets.nexperia.com/documents/data-sheet/PMEG6010CEH_PMEG6010CEJ.pdf?src-supplier=Digi-Key; ComponentLink4Description: https://assets.nexperia.com/documents/data-sheet/PMEG6010CEH_PMEG6010CEJ.pdf?src-supplier=Digi-Key; Supplier 1: Digi-Key; Supplier Part Number 1: 1727-3882-1-ND
footprint SOD-323F
pins: 1, 2

## R15P21503D
designator U?  (value not drawn)
2W DC/DC-Converter 'ECONOLINE' SIP7 6.4kV unreg; V. In: 15; V. Out: +15/-03; mA. Out: +93/-185; Manufacturer: Recom; Max Output Voltage: 15V; Supplier 1: Digi-Key; Supplier Part Number 1: 945-3070-5-ND; Manufacturer Part Number: R15P21503D; RoHS: Yes; Category: Voltage Regulators - Switching; Stock 1: 1614; Pricing 1: 1=8,47000, 5=8,31800, 10=8,25500, 25=8,12800, 50=7,87400, 100=7,26000, 250=6,98500, 500=6,85800 (USD); Weight: 4.3g; Length: 19.5mm; Width: 9.8mm; Height: 12.5mm; RoHS Compliant: Yes; ComponentLink1URL: https://www.recom-power.com/pdf/Econoline/RxxP2xxyy.pdf?src-supplier=Digi-Key; ComponentLink1Description: https://www.recom-power.com/pdf/Econoline/RxxP2xxyy.pdf?src-supplier=Digi-Key
footprint CONV_R15P21503D
pins: 1 +VIN (in), 2 -VIN (in), 5 -VOUT (out), 6 COM (power), 7 +VOUT (out)
text: ISOLATION BARRIER

## R75PI32204030J
designator C?, comment 220nF
KEMET         R75PI32204030J            Film Capacitor, AEC-Q200 R75 Series, 0.22 F,  5%, PP (Polypropylene), 630 V; Voltage Rating: 630V; Voltage Rating (AC): 250V; Dissipation Factor: 0.05%; Lead Diameter: 0.8mm; Lead Length: 30mm; Supplier 1: Digi-Key; Supplier Part Number 1: 399-12761-ND; Manufacturer: KEMET; Manufacturer Part Number: R75PI32204030J; RoHS: Yes; Category: Film Capacitors; Stock 1: 488; Pricing 1: 1=0,95000, 10=0,72000, 50=0,59800, 100=0,51490, 500=0,39860, 1000=0,34324, 2500=0,32110, 5000=0,31002 (USD); Mount: Through Hole; Case/Package: Radial; Dielectric Material: PP; Min Operating Temperature: -55°C; Max Operating Temperature: 105°C; Capacitance: 220nF; Tolerance: 5%; Packaging: Bulk; Voltage Rating (DC): 630V; Dielectric: PP; Termination: PC Pins; Voltage: 630V; Length: 0.709inch; Width: 0.394inch; Height: 16mm; Height - Seated (Max): 0.634inch; Lead Pitch: 15mm; Depth: 10mm; REACH SVHC: No SVHC; RoHS Compliant: Yes; ComponentLink1URL: http://www.alliedelec.com/m/d/0659d349de7ca29105b1b70da899f791.pdf?src-supplier=Allied+Electronics; ComponentLink1Description: http://www.alliedelec.com/m/d/0659d349de7ca29105b1b70da899f791.pdf?src-supplier=Allied+Electronics; ComponentLink2URL: http://www.farnell.com/datasheets/2120989.pdf?src-supplier=Farnell; ComponentLink2Description: http://www.farnell.com/datasheets/2120989.pdf?src-supplier=Farnell; ComponentLink3URL: http://www.kemet.com/docfinder?Partnumber=R75PI32204030J&src-supplier=Digi-Key; ComponentLink3Description: http://www.kemet.com/docfinder?Partnumber=R75PI32204030J&src-supplier=Digi-Key; ComponentLink4URL: http://www.farnell.com/datasheets/2068064.pdf?src-supplier=Element14; ComponentLink4Description: http://www.farnell.com/datasheets/2068064.pdf?src-supplier=Element14
footprint R75PI32204030J (KEMET Film capacitor)
pins: 1, 2

## RA111C1021-136
designator Switch, comment Switch  (value not drawn)  (mechanical)
Illuminated Rocker Switches 16A 125VAC 4.8mm Tab Off-On; Manufacturer: E-Switch; Manufacturer Part Number: RA111C1021-136; Illumination Type: LED,Neon; Illumination Color: Green; Voltage Rating (AC): 125V; Throw Configuration: SPST; Electrical Life: 10000Cycles; Switch Function: On-Off; Supplier 1: Digi-Key; Supplier Part Number 1: RA111C1021-136-ND; RoHS: Yes; Category: Rocker Switches; Stock 1: 790; Pricing 1: 1=1,18000, 10=1,05800, 25=1,00160, 50=0,95480, 100=0,90790, 250=0,87048, 500=0,81900, 1000=0,77220 (USD); Mount: Panel,Snap in; Color: Black; Contact Plating: Silver; Housing Material: Polyamide; Min Operating Temperature: -20°C; Max Operating Temperature: 55°C; Package Quantity: 1; Current Rating: 16A; Packaging: Bulk; Termination: Quick Connect; Series: RA1, LAMB; RoHS Compliant: Yes; ComponentLink1URL: https://datasheet.ciiva.com/6470/ra1-6470604.pdf?src-supplier=Digi-Key; ComponentLink1Description: https://datasheet.ciiva.com/6470/ra1-6470604.pdf?src-supplier=Digi-Key

## SMAJ5.0A
designator D?
BOURNS - SMAJ5.0A - TVS Diode, SMAJ Series, Unidirectional, 5 V, 9.2 V, DO-214AC (SMA), 2 Pins; Max Power Dissipation: 400W; Number of Elements: 1; Max Surge Current: 40A; Reverse Breakdown Voltage: 6.4V; Breakdown Voltage: 7V; Reverse Standoff Voltage: 5V; Clamping Voltage: 9.2V; Test Current: 10mA; Peak Pulse Current: 43.5A; Element Configuration: Single; Leakage Current: 800uA; Operating Supply Voltage: 3.5V; Power Line Protection: No; Diode Type: ZENER; ESD Protection: Yes; Supplier 1: Digi-Key; Supplier Part Number 1: SMAJ5.0ABCT-ND; Manufacturer: Bourns; Manufacturer Part Number: SMAJ5.0A; RoHS: Yes; Category: TVS Diodes; Stock 1: 30981; Pricing 1: 1=0,49000, 10=0,34300, 100=0,17320, 500=0,14130, 1000=0,10483, 2000=0,08820 (USD); Mount: Surface Mount; Case/Package: DO-214AC; Number of Pins: 2; Min Operating Temperature: -55°C; Max Operating Temperature: 150°C; Packaging: Tape and Reel; Package Quantity: 1; Series: SMAJ; Polarity: Unidirectional; Direction: Unidirectional; Peak Pulse Power: 400W; Min Breakdown Voltage: 6.4V; Number of Channels: 1; Max Reverse Leakage Current: 800uA; Termination: SMD/SMT; Max Breakdown Voltage: 7V; Number of Unidirectional Channels: 1; Resistor Type: Zener; Length: 4.57mm; Width: 2.92mm; Height: 2.42mm; Radiation Hardening: No; RoHS Compliant: Yes; REACH SVHC: No SVHC; ComponentLink1URL: https://datasheet.ciiva.com/25624/0900766b8112213b-25624680.pdf?src-supplier=RSComponents; ComponentLink1Description: https://datasheet.ciiva.com/25624/0900766b8112213b-25624680.pdf?src-supplier=RSComponents; ComponentLink2URL: https://datasheet.ciiva.com/333/smaj-333521.pdf?src-supplier=Digi-Key; ComponentLink2Description: https://datasheet.ciiva.com/333/smaj-333521.pdf?src-supplier=Digi-Key; ComponentLink3URL: https://datasheet.ciiva.com/333/smaj-333522.pdf?src-supplier=Digi-Key; ComponentLink3Description: https://datasheet.ciiva.com/333/smaj-333522.pdf?src-supplier=Digi-Key; ComponentLink4URL: https://datasheet.ciiva.com/333/smaj-333523.pdf?src-supplier=Digi-Key; ComponentLink4Description: https://datasheet.ciiva.com/333/smaj-333523.pdf?src-supplier=Digi-Key; ComponentLink5URL: https://datasheet.ciiva.com/3021/smaj-3021400.pdf?src-supplier=Avnet; ComponentLink5Description: https://datasheet.ciiva.com/3021/smaj-3021400.pdf?src-supplier=Avnet; ComponentLink6URL: https://datasheet.ciiva.com/30169/smaj-30169929.pdf?src-supplier=Onlinecomponents.com; ComponentLink6Description: https://datasheet.ciiva.com/30169/smaj-30169929.pdf?src-supplier=Onlinecomponents.com; ComponentLink7URL: https://datasheet.ciiva.com/28409/1695388-28409916.pdf?src-supplier=Element14; ComponentLink7Description: https://datasheet.ciiva.com/28409/1695388-28409916.pdf?src-supplier=Element14
footprint DO214AC SMA (Molded Diode, 2-Leads, Body 4.30x2.60mm, IPC Medium Density)
pins: 1, 2

## SMAJ16A
designator D?
TVS DIODE 16VWM 26VC DO214AC; Manufacturer: Bourns; Clamping Voltage: 26V; Peak Pulse Power: 400W; Reverse Standoff Voltage: 16V; Peak Pulse Current: 15.3A; Polarity: Unidirectional; Test Current: 1mA; Min Breakdown Voltage: 17.8V; Max Surge Current: 40A; Breakdown Voltage: 19.7V; Operating Supply Voltage: 3.5V; Number of Channels: 1; Leakage Current: 5uA; Element Configuration: Single; Power Line Protection: No; Diode Type: ZENER; Supplier 1: Digi-Key; Supplier Part Number 1: SMAJ16ABCT-ND; Manufacturer Part Number: SMAJ16A; RoHS: Yes; Category: TVS Diodes; Stock 1: 14121; Pricing 1: 1=0,49000, 10=0,34400, 100=0,17360, 500=0,14160, 1000=0,10505, 2000=0,08838 (USD); Mount: Surface Mount; Case/Package: DO-214AC; Number of Pins: 2; Min Operating Temperature: -55°C; Max Operating Temperature: 150°C; Packaging: Tape and Reel; Package Quantity: 1; Direction: Unidirectional; Reverse Breakdown Voltage: 17.8V; Number of Elements: 1; Termination: SMD/SMT; Max Reverse Leakage Current: 5uA; Number of Unidirectional Channels: 1; Series: SMAJ; Max Power Dissipation: 400W; Resistor Type: Zener; Max Breakdown Voltage: 19.7V; Radiation Hardening: No; RoHS Compliant: Yes; REACH SVHC: No SVHC; ComponentLink1URL: https://datasheet.ciiva.com/3022/smaj-3022194.pdf?src-supplier=Avnet; ComponentLink1Description: https://datasheet.ciiva.com/3022/smaj-3022194.pdf?src-supplier=Avnet; ComponentLink2URL: https://datasheet.ciiva.com/3022/smaj-3022195.pdf?src-supplier=Avnet; ComponentLink2Description: https://datasheet.ciiva.com/3022/smaj-3022195.pdf?src-supplier=Avnet; ComponentLink3URL: https://datasheet.ciiva.com/8031/1695388-8031131.pdf?src-supplier=Element14; ComponentLink3Description: https://datasheet.ciiva.com/8031/1695388-8031131.pdf?src-supplier=Element14; ComponentLink4URL: https://datasheet.ciiva.com/28649/1695388-28649163.pdf?src-supplier=Element14; ComponentLink4Description: https://datasheet.ciiva.com/28649/1695388-28649163.pdf?src-supplier=Element14; ComponentLink5URL: https://datasheet.ciiva.com/333/smaj-333452.pdf?src-supplier=Digi-Key; ComponentLink5Description: https://datasheet.ciiva.com/333/smaj-333452.pdf?src-supplier=Digi-Key; ComponentLink6URL: https://datasheet.ciiva.com/333/smaj-333453.pdf?src-supplier=Digi-Key; ComponentLink6Description: https://datasheet.ciiva.com/333/smaj-333453.pdf?src-supplier=Digi-Key; ComponentLink7URL: https://datasheet.ciiva.com/17413/smaj-17413677.pdf?src-supplier=Avnet+Europe; ComponentLink7Description: https://datasheet.ciiva.com/17413/smaj-17413677.pdf?src-supplier=Avnet+Europe; ComponentLink8URL: https://datasheet.ciiva.com/333/smaj-333454.pdf?src-supplier=Digi-Key; ComponentLink8Description: https://datasheet.ciiva.com/333/smaj-333454.pdf?src-supplier=Digi-Key; ComponentLink9URL: https://datasheet.ciiva.com/16237/smaj-16237406.pdf?src-supplier=Onlinecomponents.com; ComponentLink9Description: https://datasheet.ciiva.com/16237/smaj-16237406.pdf?src-supplier=Onlinecomponents.com
footprint DO214AC SMA (Molded Diode, 2-Leads, Body 4.30x2.60mm, IPC Medium Density)
pins: 1, 2

## SP900S-0.009-AC-58
designator SIL?  (value not drawn)  (mechanical)
Silcon Thermal Pad; Manufacturer: Bergquist Company; SymbolCreator: a0411947; SymbolVersion: 2016-05-23; ClassName: Thermal; CompType: Thermal Pad; PartNumber: SP900S-0.009-AC-58; RoHS: Y; PackageReference: 19x12.7 mm; MountType: N/A; ComponentLink1Description: Datasheet Link; ComponentLink1URL: http://www.bergquistcompany.com/pdfs/dataSheets/PDS_QP_3_12.08_E.pdf; Publisher: Texas Instruments; LatestRevisionDate: 2016-05-23; Supplier 1: Digi-Key; Supplier Part Number 1: BER183-ND; Supplier 2: Mouser; Supplier Part Number 2: 951-SP900S-009-AC-58
footprint SIL-PAD_19x12.7mm
text: SIL-PAD-19X12.7MM

## SQMW747RJ
designator R?, comment Wirewound, Snubber  (value not drawn)
Wirewound Resistors 47 Ohms 7W 300PPM; Manufacturer: TE Connectivity; Manufacturer Part Number: SQMW747RJ; Tolerance: 5%; Resistance: 47R; Temperature Coefficient: 300ppm/°C; Voltage Rating: 500V; Number of Resistors: 1; Lead Length: 3.5mm; Supplier 1: Digi-Key; Supplier Part Number 1: A102485-ND; RoHS: Yes; Category: Through-Hole Resistors; Stock 1: 6233; Pricing 1: 1=0,69000, 10=0,57500, 25=0,49240, 50=0,44320, 100=0,38580, 250=0,34472, 500=0,27908, 1000=0,22572, 5000=0,21833 (USD); Mount: Radial; Case/Package: Radial; Min Operating Temperature: -55°C; Max Operating Temperature: 250°C; Power Rating: 7W; Resistor Type: Wirewound,Power resistor; Packaging: Loose Piece; Package Quantity: 250; Termination: Radial; Number of Terminations: 2; Features: Moisture Resistant; Series: SQ, CGS; Max Power Dissipation: 7W; Resistance Tolerance: 5%; Technology: WIRE WOUND; Length: 39mm; Width: 13mm; Height: 9mm; Lead Pitch: 5mm; Depth: 9mm; RoHS Compliant: Yes; REACH SVHC: No SVHC; ELV: Compliant; ComponentLink1URL: https://datasheet.ciiva.com/16761/70063865-16761751.pdf?src-supplier=Allied+Electronics; ComponentLink1Description: https://datasheet.ciiva.com/16761/70063865-16761751.pdf?src-supplier=Allied+Electronics; ComponentLink2URL: https://datasheet.ciiva.com/7716/1468561-7716282.pdf?src-supplier=Element14; ComponentLink2Description: https://datasheet.ciiva.com/7716/1468561-7716282.pdf?src-supplier=Element14
footprint Wirewound Resistors 47 Ohms 7W 300PPM
pins: 1, 2

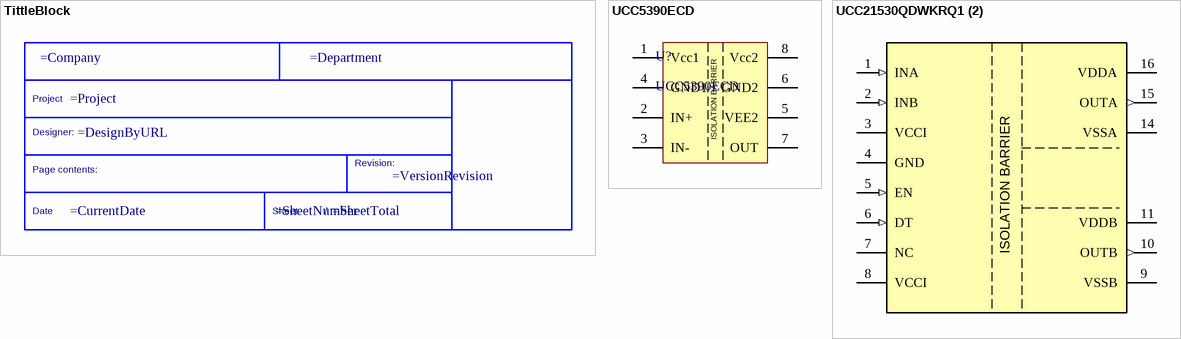
[diagram p1: symbols TittleBlock to UCC21530QDWKRQ1 (2)]

## TittleBlock
designator *  (value not drawn)  (graphical)
Standard Title block
text: Project; Designer:; Page contents:; Revision:; Date; Sheet; /

## UCC5390ECD
designator U?
10-A/10-A, 3-k/5-kVRMS single-channel isolated gate driver with 12-V UVLO, bipolar supply 8-SOIC -40 to 125; Manufacturer: Texas Instruments; Working Voltage: 990V; Number of Channels: 1; Propagation Delay: 100ns; Pulse Width Distortion (PWD): 20ns; High Level Output Current: 10A; Approvals: CSA,VDE,UR,CQC; Supplier 1: Digi-Key; Supplier Part Number 1: 296-48101-ND; Manufacturer Part Number: UCC5390ECD; RoHS: Yes; Category: Integrated Circuits (ICs); Stock 1: 1559; Pricing 1: 1=2,81000, 10=2,52800, 25=2,38480, 100=1,90800, 250=1,66952, 500=1,62180, 1000=1,28790, 2500=1,26000 (USD); Mount: Surface Mount; Case/Package: SOIC; Min Operating Temperature: -40°C; Max Operating Temperature: 125°C; Low Level Output Current: 10A; Packaging: Rail/Tube; RoHS Compliant: Yes; ComponentLink1URL: http://www.ti.com/lit/ds/symlink/ucc5390.pdf?src-supplier=Digi-Key; ComponentLink1Description: http://www.ti.com/lit/ds/symlink/ucc5390.pdf?src-supplier=Digi-Key
footprint SOIC127P599X175-8N
pins: 1 Vcc1, 2 IN+, 3 IN-, 4 GND1, 5 VEE2, 6 GND2, 7 OUT, 8 Vcc2
text: ISOLATION BARRIER

## UCC21530QDWKRQ1 (2)
designator U?, comment UCC21530QDWKRQ1  (value not drawn)
Isolated Dual-Channel Gate Driver 6A 2-Output High Side/Low Side/Half-Bridge 14-Pin SOIC T/R; Manufacturer: Texas Instruments; Supplier 1: Mouser; Supplier Part Number 1: 595-UCC21530QDWKRQ1; Manufacturer Part Number: UCC21530QDWKRQ1; RoHS: Yes; Category: Integrated Circuits (ICs); Stock 1: 1426; Pricing 1: 1=5,17000, 10=4,64000, 50=4,39000, 100=3,61000, 1000=2,59000, 10000=2,50000 (USD); RoHS Compliant: Yes
footprint DW0016B_HV
pins: 1 INA (in), 2 INB (in), 3 VCCI, 4 GND (power), 5 EN (in), 6 DT (in), 7 NC, 8 VCCI, 9 VSSB, 10 OUTB (out), 11 VDDB, 14 VSSA, 15 OUTA (out), 16 VDDA
text: ISOLATION BARRIER